# Altium schematic symbol library Relays.SchLib: 2 symbols
Pins are listed as number, name and electrical type; pins without a type are passive.

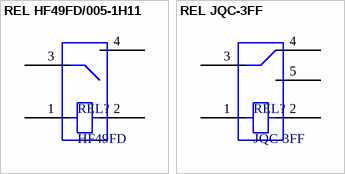
[diagram p0: symbols REL HF49FD/005-1H11 to REL JQC-3FF]

## REL HF49FD/005-1H11
designator REL?, comment HF49FD
继电器
footprint REL FINDER_11T (8 Leads, Row Spacing 12 mm; Body 19mm x 15.5mm, 36 Serie)
pins: 1, 2, 3, 4

## REL JQC-3FF
designator REL?, comment JQC-3FF
继电器
footprint REL FINDER_36.11 (8 Leads, Row Spacing 12 mm; Body 19mm x 15.5mm, 36 Serie)
pins: 1, 2, 3, 4, 5